# Altium integrated library RES_VAR.IntLib: 1 symbol
Pins are listed as number, name and electrical type; pins without a type are passive.

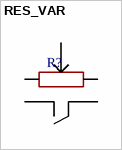
[diagram p0: symbol RES_VAR]

## RES_VAR
designator R?
footprint RES_VAR
pins: 1, 2, 3, 4, 5